# Altium footprint library SOT95P245X145-3N.PcbLib: 1 footprints
Each footprint in its own frame and in the unit in brackets; x right, y up, seen from the top. Pads: shape width x height; smd on the part's side, far side on the other; paste and mask are expansions set on the pad; w line width, h text height; cw(c..) or ccw(c..) is an arc to the next point about the centre after c.
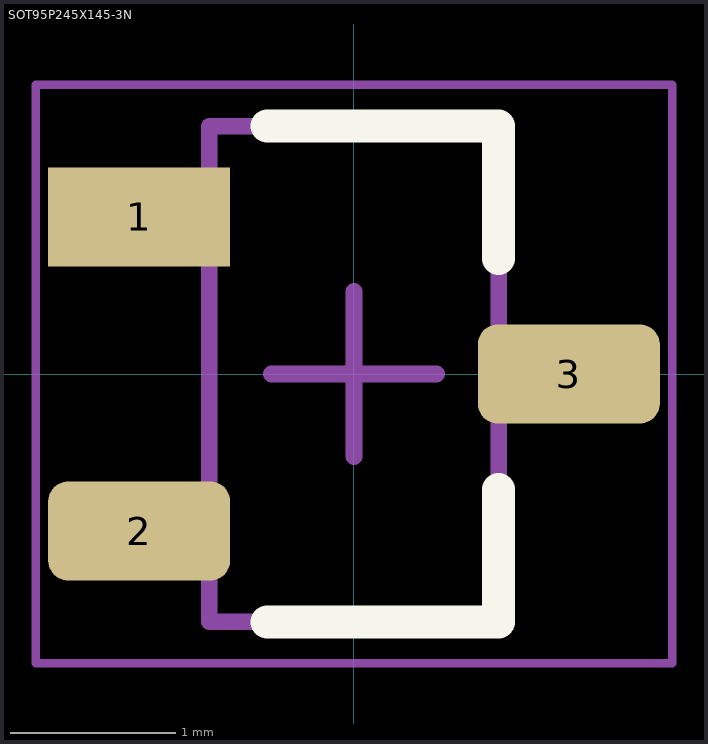
[diagram p0: the footprint, top view; thin cyan lines are the x and y axes]

## SOT95P245X145-3N [mm] "SOT23, 3-Leads, Body 2,90x2,45mm, Pitch 0,95mm, IPC Medium Density"
height 1.45
pads (3):
  rect 1.1x0.6 smd: 1(-1.3,0.95)
  rrect40% 1.1x0.6 smd: 2(-1.3,-0.95) 3(1.3,0)
Top Overlay:
  lines w0.2: -0.525,-1.5 0.875,-1.5 0.875,-0.7 ; -0.525,1.5 0.875,1.5 0.875,0.7
13:
  lines w0.1: -0.875,-1.5 -0.875,1.5 0.875,1.5 0.875,-1.5 -0.875,-1.5
Mechanical 15:
  lines w0.05: -1.925,-1.75 -1.925,1.75 1.925,1.75 1.925,-1.75 -1.925,-1.75
  lines w0.1: -0.5,0 0.5,0 ; 0,-0.5 0,0.5
3D body "SOT95P245X145-3N.step": height 1.45, standoff 0, extent -1.3,-1.5 1.3,1.5